# Altium footprint library PCB11.PcbLib: 23 footprints (part 2 of 2)
Each footprint in its own frame and in the unit in brackets; x right, y up, seen from the top. Pads: shape width x height; smd on the part's side, far side on the other; paste and mask are expansions set on the pad; w line width, h text height; cw(c..) or ccw(c..) is an arc to the next point about the centre after c.
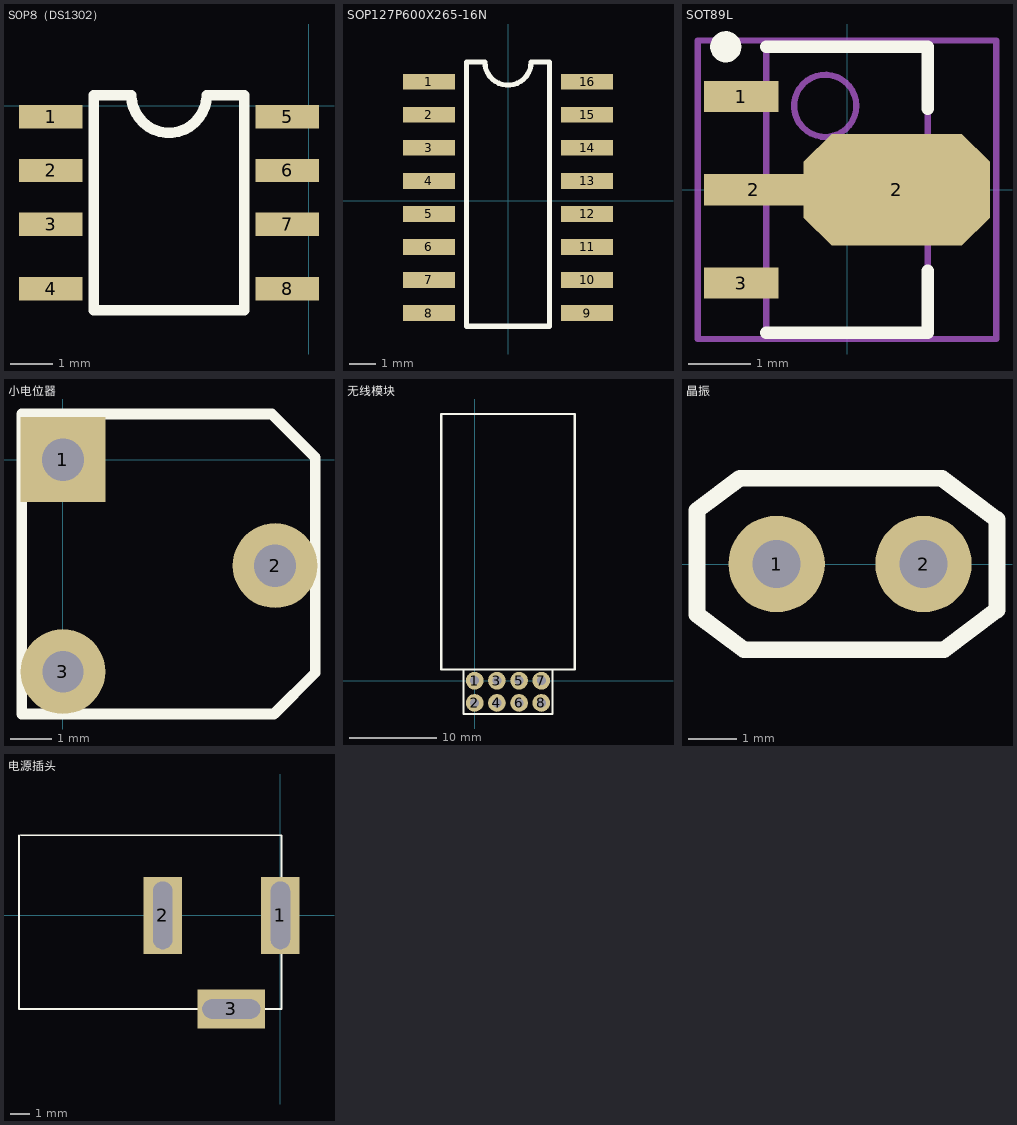
[diagram p1: the footprints below, top view; thin cyan lines are the x and y axes]

## SOP8（DS1302） [mil]
pads (8):
  rect 59.06x21.65 smd: 1(-240,-10) 2(-240,-60) 3(-240,-110) 4(-240,-170) 5(-20,-10) 6(-20,-60) 7(-20,-110) 8(-20,-170)
Top Overlay:
  lines w10: -200,-190 -200,10 -165,10 ccw(c-130,10) -95,10 -60,10 -60,-190 -200,-190

## SOP127P600X265-16N [mil] "SOP, 16-Leads, Body 9.95x3.90mm, Pitch 1.27mm, IPC Medium Density"
height 104.33
pads (16):
  rect 78.74x23.62 smd: 1(-120,180) 2(-120,130) 3(-120,80) 4(-120,30) 5(-120,-20) 6(-120,-70) 7(-120,-120) 8(-120,-170) 9(120,-170) 10(120,-120) 11(120,-70) 12(120,-20) 13(120,30) 14(120,80) 15(120,130) 16(120,180)
Top Overlay:
  lines w7.8: -62.99,210 -35,210 ccw(c0,210) 35,210 62.99,210
  lines w7.87: -62.99,210 -62.99,-190 62.99,-190 62.99,210

## SOT89L [mm] "SOT89, 3-Leads, Body 4.5x2.4 mm, Pitch 1.5mm, Lead Span 4.1mm, IPC High Density"
height 1.61
pads (4):
  rect 1.2x0.5 smd: 1(-1.7,1.5) 3(-1.7,-1.5)
  rect 1.6x0.5 smd: 2(-1.5,0)
  oct 3x1.8 smd: 2(0.8,0)
Top Overlay:
  circle w0.25: c-1.95,2.3 r0.125
  lines w0.2: -1.3,-2.3 1.3,-2.3 1.3,-1.3 ; -1.3,2.3 1.3,2.3 1.3,1.3
Mechanical 13:
  circle w0.1: c-0.35,1.35 r0.5
  lines w0.1: -1.3,-2.3 1.3,-2.3 1.3,2.3 -1.3,2.3 -1.3,-2.3
Mechanical 15:
  lines w0.1: -0.5,0 0.5,0 ; 0,-0.5 0,0.5 ; -2.4,-2.4 2.4,-2.4 2.4,2.4 -2.4,2.4 -2.4,-2.4
3D body: height 1.6, standoff 0, extent -1.3,-2.3 1.3,2.3

## 小电位器 [mil]
pads (3):
  rect 80x80 hole 40: 1(0,0)
  round 80 hole 40: 2(200,-100)
  round 80 hole 39: 3(0,-200)
Top Overlay:
  lines w10: -39,-240 100,-240 199,-240 238,-201 238,2 197,43 -39,43 -39,-240

## 无线模块 [mil]
pads (8):
  round 80 hole 40: 1(0,0) 2(0,-100) 3(100,0) 4(100,-100) 5(200,0) 6(200,-100) 7(300,0) 8(300,-100)
Top Overlay:
  lines w10: -50,50 -50,-150 350,-150 350,50 ; -50,50 350,50 ; -50,50 -150,50 -150,1200 450,1200 450,50 350,50

## 晶振 [mm]
pads (2):
  round 2 hole 1: 1(2.032,0) 2(5.08,0)
Top Overlay:
  lines w0.35: 0.381,-1.048 0.381,1.111 1.27,1.778 5.461,1.778 6.604,0.921 6.604,-0.953 5.503,-1.778 1.355,-1.778 0.381,-1.048

## 电源插头 [mm]
pads (3):
  rect 2x4 hole 1 slot 3.5 at 90 deg: 1(0,0) 2(-6.096,0)
  rect 3.5x2 hole 1 slot 3 at 0 deg: 3(-2.545,-4.85)
Top Overlay:
  lines w0.1: -13.545,4.15 -13.545,-4.85 -2.545,-4.85 ; -4.645,-4.85 0.055,-4.85 0.055,4.15 ; -13.445,4.15 -2.545,4.15 0.055,4.15 ; -13.445,4.15 -13.445,4.15 ; 0.055,4.15 0.055,4.15